# Altium footprint library 430450200.PcbLib: 1 footprints
Each footprint in its own frame and in the unit in brackets; x right, y up, seen from the top. Pads: shape width x height; smd on the part's side, far side on the other; paste and mask are expansions set on the pad; w line width, h text height; cw(c..) or ccw(c..) is an arc to the next point about the centre after c.
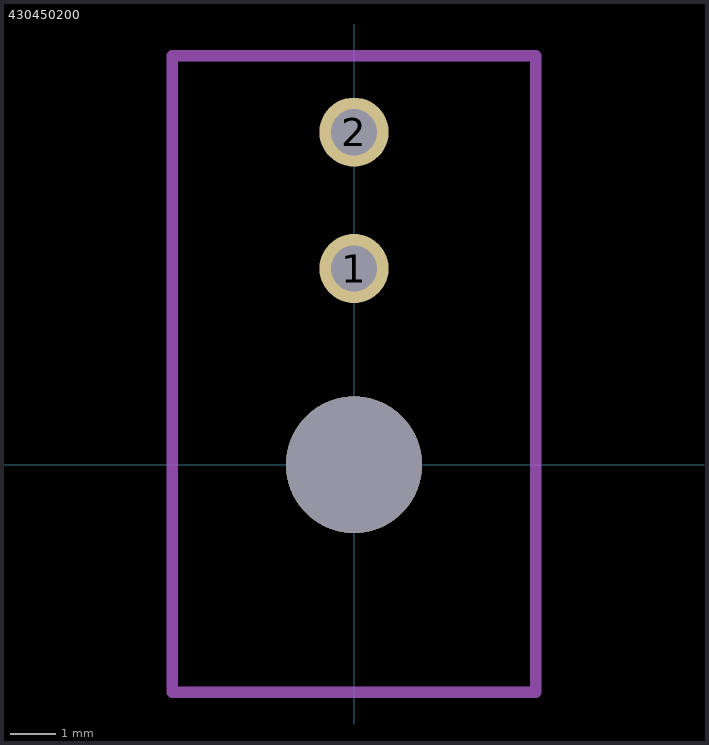
[diagram p0: the footprint, top view; thin cyan lines are the x and y axes]

## 430450200 [mil]
pads (2):
  round 60 hole 40.16: 1(0,170.08) 2(0,288.19)
via 0,0 diameter 118.11 hole 118.11
Mechanical 1:
  lines w10: -157.48,-196.85 -157.48,354.33 157.48,354.33 157.48,-196.85 -157.48,-196.85
3D body "430450200.stp": height 345.78, standoff -124.7, extent -140.74,-181.1 140.76,300.79
3D body: height 10, standoff 0, extent 0,0 0,0